# EAGLE library part THERMOCOUPLE-BOARD_EEPROM-I2C (library Thermocouple-board)
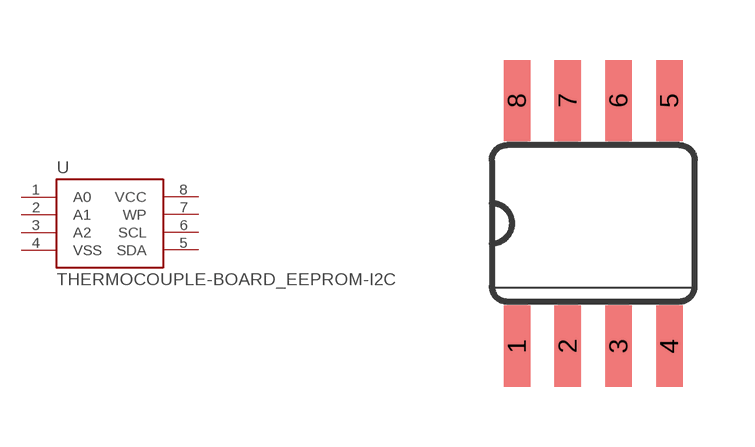
[diagram p2: symbol with the pads of THERMOCOUPLE-BOARD_SO08:1; footprint THERMOCOUPLE-BOARD_SO08:1]

Designator prefix U

## THERMOCOUPLE-BOARD_EEPROM-I2C  [THERMOCOUPLE-BOARD_SO08:1]
1  A0
2  A1
3  A2
4  VSS  pwr
5  SDA
6  SCL
7  WP
8  VCC  pwr

## Footprint THERMOCOUPLE-BOARD_SO08:1 (pad centres in mm)
smd 0.66 x 2.032: 1 -1.905,-3.073; 2 -0.635,-3.073; 3 0.635,-3.073; 4 1.905,-3.073; 5 1.905,3.073; 6 0.635,3.073; 7 -0.635,3.073; 8 -1.905,3.073